# Altium schematic symbol library USB3318C-CP-TR.SchLib: 1 symbol
Pins are listed as number, name and electrical type; pins without a type are passive.

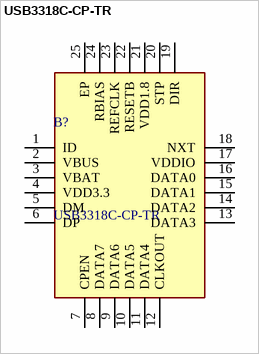
[diagram p0: symbol USB3318C-CP-TR]

## USB3318C-CP-TR
designator B?
MICROCHIP - USB3318C-CP-TR - USB TRANSCEIVER, QFN-24; Geometry.Height: 1mm; Mouser Part Number: 886-USB3318C-CP-TR; Mouser Price/Stock: https://www.mouser.co.uk/ProductDetail/Microchip-Technology/USB3318C-CP-TR?qs=pA5MXup5wxEqKRd0j%252Bo%252BXA%3D%3D; Manufacturer_Name: Microchip; Manufacturer_Part_Number: USB3318C-CP-TR; Datasheet Link: http://www.microchip.com/mymicrochip/filehandler.aspx?ddocname=en562029
footprint QFN50P400X400X100-25N-D
pins: 1 ID, 2 VBUS, 3 VBAT, 4 VDD3.3, 5 DM, 6 DP, 7 CPEN, 8 DATA7, 9 DATA6, 10 DATA5, 11 DATA4, 12 CLKOUT, 13 DATA3, 14 DATA2, 15 DATA1, 16 DATA0, 17 VDDIO, 18 NXT, 19 DIR, 20 STP, 21 VDD1.8, 22 RESETB, 23 REFCLK, 24 RBIAS, 25 EP